# Altium integrated library female 4 pin header.IntLib: 1 symbol
Pins are listed as number, name and electrical type; pins without a type are passive.

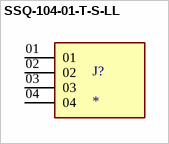
[diagram p0: symbol SSQ-104-01-T-S-LL]

## SSQ-104-01-T-S-LL
designator J?
4 Position Receptacle Connector 0.100 (2.54mm) Through Hole Tin; MF: Samtec; MP: SSQ-104-01-T-S-LL; SnapEDA_Link: https://www.snapeda.com/parts/SSQ-104-01-T-S-LL/Samtec/view-part/?ref=snap; Package: None; Value: *; Check_prices: https://www.snapeda.com/parts/SSQ-104-01-T-S-LL/Samtec/view-part/?ref=eda
footprint SAMTEC_SSQ-104-01-T-S-LL
pins: 01, 02, 03, 04